# Altium integrated library FSC Interface Line Receiver.IntLib: 2 symbols
Pins are listed as number, name and electrical type; pins without a type are passive.

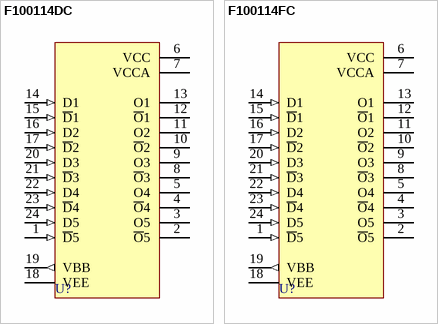
[diagram p0: symbols F100114DC to F100114FC]

## F100114DC
designator U?
Quint Differential Line Receiver; Published: 17-Jul-2002; LatestRevisionDate: 04-Mar-2005; LatestRevisionNote: Stylized 3D Model Added.; DatasheetVersion: 1986; PackageVersion: 1986; PackageReference: 6Y; Publisher: Altium Limited; PackageDescription: DIP; 24 Leads; Row Spacing 10.16 mm; Pitch 2.54 mm; ComponentLink1Description: Manufacturer Link; ComponentLink1URL: http://www.fairchildsemi.com/
footprint 6Y (DIP; 24 Leads; Row Spacing 10.16 mm; Pitch 2.54 mm)
3D model 6Y (DIP; 24 Leads; Row Spacing 10.16 mm; Pitch 2.54 mm)
pins: 1 ~{D}5 (in), 2 ~{O}5 (oe), 3 O5 (oe), 4 ~{O}4 (oe), 5 O4 (oe), 6 VCC (power), 7 VCCA (power), 8 ~{O}3 (oe), 9 O3 (oe), 10 ~{O}2 (oe), 11 O2 (oe), 12 ~{O}1 (oe), 13 O1 (oe), 14 D1 (in), 15 ~{D}1 (in), 16 D2 (in), 17 ~{D}2 (in), 18 VEE (power), 19 VBB (out), 20 D3 (in), 21 ~{D}3 (in), 22 D4 (in), 23 ~{D}4 (in), 24 D5 (in)

## F100114FC
designator U?
Quint Differential Line Receiver; Published: 17-Jul-2002; LatestRevisionDate: 13-Apr-2006; LatestRevisionNote: IPC-7351 Footprint Added.; DatasheetVersion: 1986; PackageVersion: 1986; PackageReference: 4V; Publisher: Altium Limited; PackageDescription: 100-Pin Quad Cerpak 1.27 mm Pitch; ComponentLink1Description: Manufacturer Link; ComponentLink1URL: http://www.fairchildsemi.com/
footprint 4V_N (CQFP, 24-Leads, Body 10x10mm; Pitch 1.27mm, Gullwing Leadform, IPC Medium Density)
footprint 4V_L (CQFP, 24-Leads, Body 10x10mm; Pitch 1.27mm, Gullwing Leadform, IPC High Density)
footprint 4V_M (CQFP, 24-Leads, Body 10x10mm; Pitch 1.27mm, Gullwing Leadform, IPC Low Density)
3D model F100114-4V (100-Pin Quad Cerpak 1.27 mm Pitch)
pins: 1 ~{D}5 (in), 2 ~{O}5 (oe), 3 O5 (oe), 4 ~{O}4 (oe), 5 O4 (oe), 6 VCC (power), 7 VCCA (power), 8 ~{O}3 (oe), 9 O3 (oe), 10 ~{O}2 (oe), 11 O2 (oe), 12 ~{O}1 (oe), 13 O1 (oe), 14 D1 (in), 15 ~{D}1 (in), 16 D2 (in), 17 ~{D}2 (in), 18 VEE (power), 19 VBB (out), 20 D3 (in), 21 ~{D}3 (in), 22 D4 (in), 23 ~{D}4 (in), 24 D5 (in)